# Altium integrated library Earth PAD.IntLib: 1 symbol
Pins are listed as number, name and electrical type; pins without a type are passive.

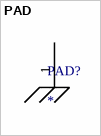
[diagram p0: symbol PAD]

## PAD
designator PAD?
Earth PAD
footprint PCBComponent_1
pins: 1